# Altium schematic symbol library 0805_Chip_Resistor.SchLib: 1 symbol
Pins are listed as number, name and electrical type; pins without a type are passive.

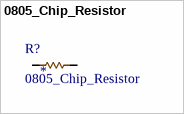
[diagram p0: symbol 0805_Chip_Resistor]

## 0805_Chip_Resistor
designator R?
0805 Chip Resistor - Surface Mount ROHS; LCSC: *
footprint 0805_Chip_Resistor
pins: 1, 2